# Altium footprint library STB_PcbLib.PcbLib: 11 footprints
Each footprint in its own frame and in the unit in brackets; x right, y up, seen from the top. Pads: shape width x height; smd on the part's side, far side on the other; paste and mask are expansions set on the pad; w line width, h text height; cw(c..) or ccw(c..) is an arc to the next point about the centre after c.
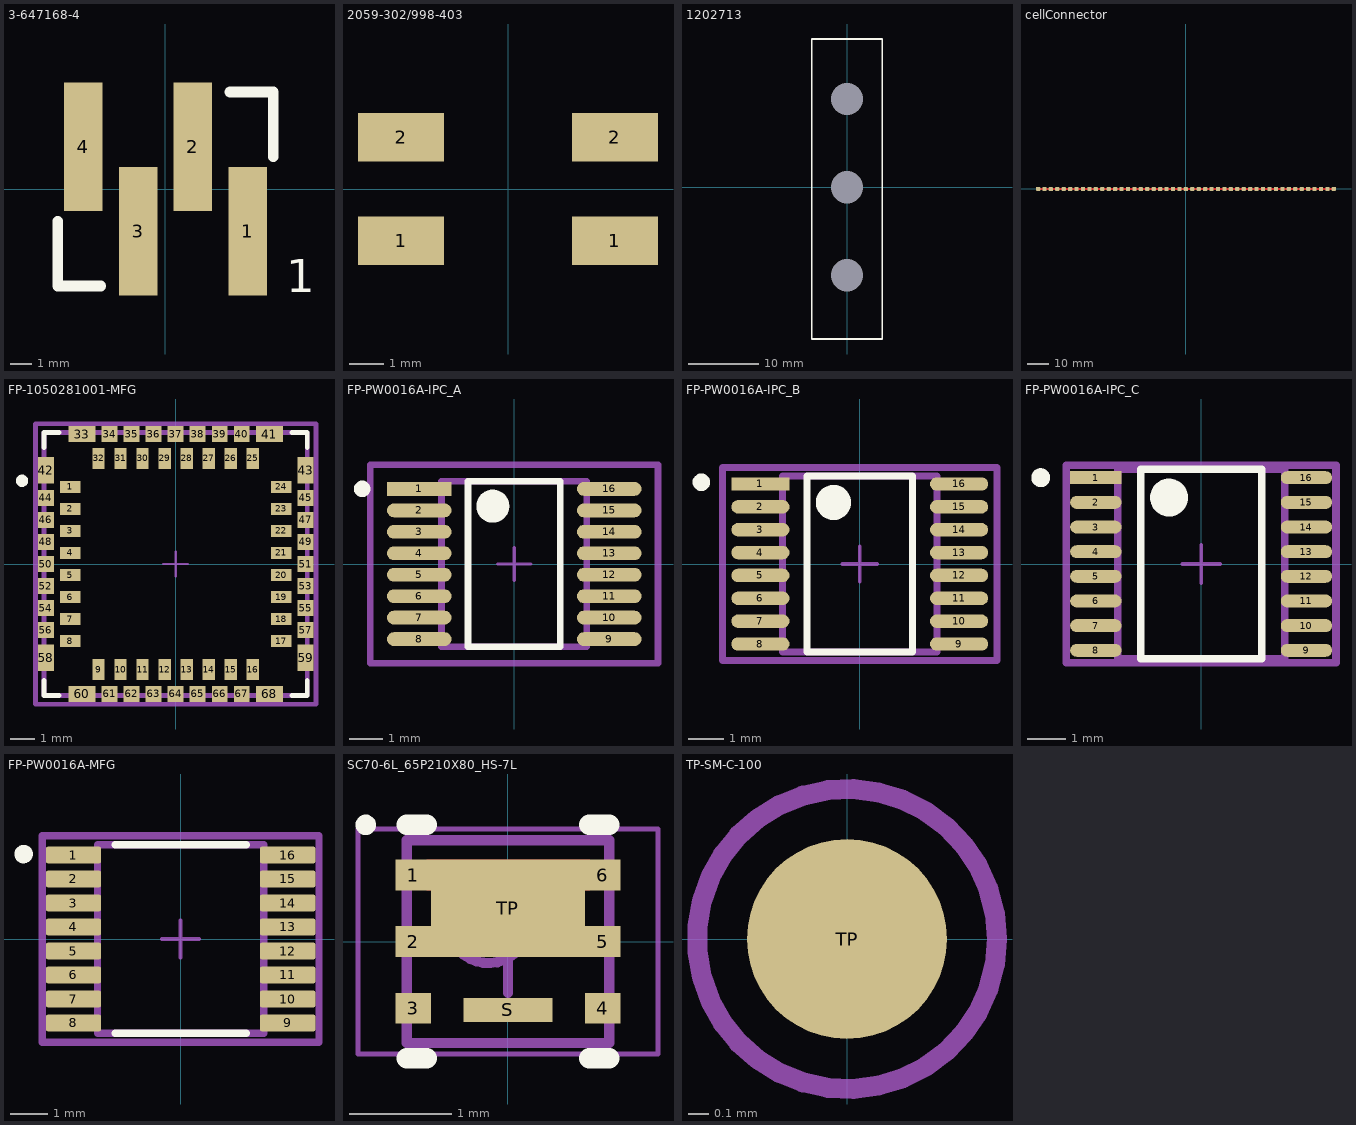
[diagram p0: the footprints below, top view; thin cyan lines are the x and y axes]

## 3-647168-4 [mm] "04P MTA100 HDR ASSY SM 30AU LF"
pads (4):
  rect 1.78x5.97 smd paste-1: 1(3.81,-1.965) 2(1.27,1.965) 3(-1.27,-1.965) 4(-3.81,1.965)
Top Overlay:
  lines w0.5: -5,-1.5 -5,-4.5 -3,-4.5 ; 3,4.5 5,4.5 5,1.5
  text "1" at 5.599,-4.789 h1.52
3D body "c-3-647168-4-k-3d.stp": height 10.67, standoff 0.01, extent -5.08,-4.271 5.08,4.314

## 2059-302/998-403 [mm] "2 pos"
pads (4):
  rect 2.5x1.4 smd paste-100: 1(-3.1,-1.5) 1(3.1,-1.5) 2(-3.1,1.5) 2(3.1,1.5)
3D body "2059-302_998-403.stp": height 2.7, standoff 0, extent -4,-2.95 3.85,2.95

## 1202713 [mm] "Rail adapters - USA 10/4,6"
pads (3):
  round 0 / inner round 1.524 / far side round 10 hole 4.6 unplated: 7(0,-12.5) 7(0,0) 7(0,12.5)
Top Overlay:
  lines w0.25: -5,15 -5,21 5,21 5,-15.5 5,-21.5 -5,-21.5 -5,15.5
Mechanical 5:
  text "TOP" at -2.13,18.607 h1.52
3D body "pxc_1202713_03_USA-10-4-6_3D.stp": height 18.98, standoff -0.02, extent -5,-21.496 5,21.104

## cellConnector [mm] "dumm for cell ceonnection"
pads (47):
  rrect50% 2x2 smd paste-100: 1(-69,0) 1(-66.065,-0.063) 1(-63.065,-0.063) 1(-60.065,-0.063) 1(-57.065,-0.063) 1(-54.065,-0.063) 1(-51.065,-0.063) 1(-48.065,-0.063) 1(-45.065,-0.063) 1(-42.065,-0.063) 1(-39.065,-0.063) 1(-36.065,-0.063) 1(-33.065,-0.063) 1(-30.065,-0.063) 1(-27.065,-0.063) 1(-24.065,-0.063) 1(-21.065,-0.063) 1(-18.065,-0.063) 1(-15.065,-0.063) 1(-12.065,-0.063) 1(-9.065,-0.063) 1(-6.065,-0.063) 1(-3.065,-0.063) 1(-0.065,-0.063) 1(2.935,-0.063) 1(5.935,-0.063) 1(8.935,-0.063) 1(11.935,-0.063) 1(14.935,-0.063) 1(17.935,-0.063) 1(20.935,-0.063) 1(23.935,-0.063) 1(26.935,-0.063) 1(29.935,-0.063) 1(32.935,-0.063) 1(35.935,-0.063) 1(38.935,-0.063) 1(42,0) 1(45,0) 1(48,0) 1(51,0) 1(54,0) 1(57,0) 1(60,0) 1(63,0) 1(66,0) 1(69,0)
Top Layer:
  lines w1: -69,0 69,0

## FP-1050281001-MFG [mm]
pads (68):
  rect 0.84x0.5 smd paste+0 mask+0: 1(-4.31,3.15) 2(-4.31,2.25) 3(-4.31,1.35) 4(-4.31,0.45) 5(-4.31,-0.45) 6(-4.31,-1.35) 7(-4.31,-2.25) 8(-4.31,-3.15) 17(4.31,-3.15) 18(4.31,-2.25) 19(4.31,-1.35) 20(4.31,-0.45) 21(4.31,0.45) 22(4.31,1.35) 23(4.31,2.25) 24(4.31,3.15)
  rect 0.5x0.84 smd paste+0 mask+0: 9(-3.15,-4.31) 10(-2.25,-4.31) 11(-1.35,-4.31) 12(-0.45,-4.31) 13(0.45,-4.31) 14(1.35,-4.31) 15(2.25,-4.31) 16(3.15,-4.31) 25(3.15,4.31) 26(2.25,4.31) 27(1.35,4.31) 28(0.45,4.31) 29(-0.45,4.31) 30(-1.35,4.31) 31(-2.25,4.31) 32(-3.15,4.31)
  rect 1.1x0.65 smd paste+0 mask+0: 33(-3.83,5.305) 41(3.83,5.305) 60(-3.83,-5.305) 68(3.83,-5.305)
  rect 0.65x0.65 smd paste+0 mask+0: 34(-2.7,5.305) 35(-1.8,5.305) 36(-0.9,5.305) 37(0,5.305) 38(0.9,5.305) 39(1.8,5.305) 40(2.7,5.305) 44(-5.305,2.7) 45(5.305,2.7) 46(-5.305,1.8) 47(5.305,1.8) 48(-5.305,0.9) 49(5.305,0.9) 50(-5.305,0) 51(5.305,0) 52(-5.305,-0.9) 53(5.305,-0.9) 54(-5.305,-1.8) 55(5.305,-1.8) 56(-5.305,-2.7) 57(5.305,-2.7) 61(-2.7,-5.305) 62(-1.8,-5.305) 63(-0.9,-5.305) 64(0,-5.305) 65(0.9,-5.305) 66(1.8,-5.305) 67(2.7,-5.305)
  rect 0.65x1.1 smd paste+0 mask+0: 42(-5.305,3.83) 43(5.305,3.83) 58(-5.305,-3.83) 59(5.305,-3.83)
Top Overlay:
  circle w0.25: c-6.275,3.4 r0.125
  lines w0.2: -5.375,-4.755 -5.375,-5.375 -4.755,-5.375 ; -5.375,4.755 -5.375,5.375 -4.755,5.375 ; 4.755,-5.375 5.375,-5.375 5.375,-4.755 ; 4.755,5.375 5.375,5.375 5.375,4.755
Top 3D Body:
  lines w0.2: -5.375,-5.375 5.375,-5.375 5.375,5.375 -5.375,5.375 -5.375,-5.375
Top Assembly:
  lines w0.2: -5.73,-5.73 5.73,-5.73 5.73,5.73 -5.73,5.73 -5.73,-5.73
  text ".Designator" at 0,0.187 h1
Top Courtyard:
  lines w0.2: -5.73,-5.73 5.73,-5.73 5.73,5.73 -5.73,5.73 -5.73,-5.73
Top Component Center:
  lines w0.1: -0.5,0 0.5,0 ; 0,-0.5 0,0.5
3D body "Conn_Molex_1050281001_eec.STEP": height 0.25, standoff 0, extent -5.73,-5.73 5.73,5.73

## FP-PW0016A-IPC_A [mm]
pads (16):
  rect 1.955x0.421 smd paste+0 mask+0: 1(-2.875,2.275)
  rrect100% 1.955x0.421 smd paste+0 mask+0: 2(-2.875,1.625) 3(-2.875,0.975) 4(-2.875,0.325) 5(-2.875,-0.325) 6(-2.875,-0.975) 7(-2.875,-1.625) 8(-2.875,-2.275) 9(2.875,-2.275) 10(2.875,-1.625) 11(2.875,-0.975) 12(2.875,-0.325) 13(2.875,0.325) 14(2.875,0.975) 15(2.875,1.625) 16(2.875,2.275)
Top Overlay:
  circle w0.25: c-4.603,2.275 r0.125
  circle w0.5: c-0.648,1.75 r0.25
  lines w0.2: -1.398,-2.5 -1.398,2.5 1.398,2.5 1.398,-2.5 -1.398,-2.5
Top 3D Body:
  lines w0.2: -2.2,-2.5 -2.2,2.5 2.2,2.5 2.2,-2.5 -2.2,-2.5
Top Assembly:
  lines w0.2: -4.353,-3 -4.353,3 4.353,3 4.353,-3 -4.353,-3
  text ".Designator" at 0,0.187 h1
Top Courtyard:
  lines w0.2: -4.353,-3 -4.353,3 4.353,3 4.353,-3 -4.353,-3
Top Component Center:
  lines w0.1: -0.5,0 0.5,0 ; 0,-0.5 0,0.5
3D body "IC_TEXAS_INSTRUMENTS_SN74HC165PWR_eec.STEP": height 0.25, standoff 0, extent -4.353,-3 4.353,3

## FP-PW0016A-IPC_B [mm]
pads (16):
  rect 1.655x0.381 smd paste+0 mask+0: 1(-2.825,2.275)
  rrect100% 1.655x0.381 smd paste+0 mask+0: 2(-2.825,1.625) 3(-2.825,0.975) 4(-2.825,0.325) 5(-2.825,-0.325) 6(-2.825,-0.975) 7(-2.825,-1.625) 8(-2.825,-2.275) 9(2.825,-2.275) 10(2.825,-1.625) 11(2.825,-0.975) 12(2.825,-0.325) 13(2.825,0.325) 14(2.825,0.975) 15(2.825,1.625) 16(2.825,2.275)
Top Overlay:
  circle w0.5: c-0.748,1.75 r0.25
  circle w0.25: c-4.503,2.325 r0.125
  lines w0.2: -1.498,-2.5 1.498,-2.5 1.498,2.5 -1.498,2.5 -1.498,-2.5
Top 3D Body:
  lines w0.2: -2.2,-2.5 2.2,-2.5 2.2,2.5 -2.2,2.5 -2.2,-2.5
Top Assembly:
  lines w0.2: -3.903,-2.75 3.903,-2.75 3.903,2.75 -3.903,2.75 -3.903,-2.75
  text ".Designator" at 0,0.187 h1
Top Courtyard:
  lines w0.2: -3.903,-2.75 3.903,-2.75 3.903,2.75 -3.903,2.75 -3.903,-2.75
Top Component Center:
  lines w0.1: -0.5,0 0.5,0 ; 0,-0.5 0,0.5
3D body "IC_TEXAS_INSTRUMENTS_SN74HC165PWR_eec.STEP": height 0.25, standoff 0, extent -3.903,-2.75 3.903,2.75

## FP-PW0016A-IPC_C [mm]
pads (16):
  rect 1.355x0.341 smd paste+0 mask+0: 1(-2.775,2.275)
  rrect100% 1.355x0.341 smd paste+0 mask+0: 2(-2.775,1.625) 3(-2.775,0.975) 4(-2.775,0.325) 5(-2.775,-0.325) 6(-2.775,-0.975) 7(-2.775,-1.625) 8(-2.775,-2.275) 9(2.775,-2.275) 10(2.775,-1.625) 11(2.775,-0.975) 12(2.775,-0.325) 13(2.775,0.325) 14(2.775,0.975) 15(2.775,1.625) 16(2.775,2.275)
Top Overlay:
  circle w0.5: c-0.848,1.75 r0.25
  circle w0.25: c-4.228,2.275 r0.125
  lines w0.2: -1.598,-2.5 1.598,-2.5 1.598,2.5 -1.598,2.5 -1.598,-2.5
Top 3D Body:
  lines w0.2: -2.2,-2.5 2.2,-2.5 2.2,2.5 -2.2,2.5 -2.2,-2.5
Top Assembly:
  lines w0.2: -3.553,-2.6 3.553,-2.6 3.553,2.6 -3.553,2.6 -3.553,-2.6
  text ".Designator" at 0,0.187 h1
Top Courtyard:
  lines w0.2: -3.553,-2.6 3.553,-2.6 3.553,2.6 -3.553,2.6 -3.553,-2.6
Top Component Center:
  lines w0.1: -0.5,0 0.5,0 ; 0,-0.5 0,0.5
3D body "IC_TEXAS_INSTRUMENTS_SN74HC165PWR_eec.STEP": height 0.25, standoff 0, extent -3.553,-2.6 3.553,2.6

## FP-PW0016A-MFG [mm]
pads (16):
  rrect22% 1.5x0.45 smd paste+0 mask+0: 1(-2.9,2.275) 2(-2.9,1.625) 3(-2.9,0.975) 4(-2.9,0.325) 5(-2.9,-0.325) 6(-2.9,-0.975) 7(-2.9,-1.625) 8(-2.9,-2.275) 9(2.9,-2.275) 10(2.9,-1.625) 11(2.9,-0.975) 12(2.9,-0.325) 13(2.9,0.325) 14(2.9,0.975) 15(2.9,1.625) 16(2.9,2.275)
Top Overlay:
  circle w0.25: c-4.25,2.3 r0.125
  lines w0.2: -1.775,-2.55 1.775,-2.55 ; -1.775,2.55 1.775,2.55
Top 3D Body:
  lines w0.2: -2.25,-2.55 2.25,-2.55 2.25,2.55 -2.25,2.55 -2.25,-2.55
Top Assembly:
  lines w0.2: -3.75,-2.8 3.75,-2.8 3.75,2.8 -3.75,2.8 -3.75,-2.8
  text ".Designator" at 0,0.187 h1
Top Courtyard:
  lines w0.2: -3.75,-2.8 3.75,-2.8 3.75,2.8 -3.75,2.8 -3.75,-2.8
Top Component Center:
  lines w0.1: -0.5,0 0.5,0 ; 0,-0.5 0,0.5
3D body "IC_TEXAS_INSTRUMENTS_SN74HC165PWR_eec.STEP": height 0.25, standoff 0, extent -3.75,-2.8 3.75,2.8

## SC70-6L_65P210X80_HS-7L [mm] "SC70-6L, Vishay Siliconix, Body 2.07x2.07mm, Pitch 0.65mm, IPC High Density"
height 0.8
pads (8):
  rect 0.35x0.3 smd: 1(-0.925,0.65) 2(-0.925,0) 3(-0.925,-0.65) 4(0.925,-0.65) 5(0.925,0) 6(0.925,0.65)
  rect 0.87x0.235 smd: S(0,-0.667)
  rect 1.5x0.95 smd: TP(0,0.325)
Top Layer:
  rectangle: -0.795,0.5 0.8,0.8
  rectangle: -0.8,-0.15 0.8,0.15
Top Overlay:
  circle w0.1: c-1.39,1.14 r0.05
  lines w0.2: -0.99,-1.14 -0.795,-1.14 ; -0.99,1.14 -0.795,1.14 ; 0.795,-1.14 0.99,-1.14 ; 0.795,1.14 0.99,1.14
Mechanical 13:
  circle w0.1: c-0.19,0.19 r0.4
  lines w0.1: -0.99,-0.99 0.99,-0.99 0.99,0.99 -0.99,0.99 -0.99,-0.99
Mechanical 15:
  lines w0.05: -1.465,-1.1 1.465,-1.1 1.465,1.1 -1.465,1.1 -1.465,-1.1
  lines w0.1: -0.5,0 0.5,0 ; 0,-0.5 0,0.5
3D body: height 0.8, standoff 0, extent -0.99,-0.99 0.99,0.99

## TP-SM-C-100 [mm] "Test Point, Surface Mounting, Circular, Pad Diameter 1mm"
pads (1):
  round 1 smd paste-1: TP(0,0)
Mechanical 15:
  circle w0.1: c0,0 r0.75